# Altium footprint library 51常用（2）.PcbLib: 45 footprints (part 3 of 3)
Each footprint in its own frame and in the unit in brackets; x right, y up, seen from the top. Pads: shape width x height; smd on the part's side, far side on the other; paste and mask are expansions set on the pad; w line width, h text height; cw(c..) or ccw(c..) is an arc to the next point about the centre after c.
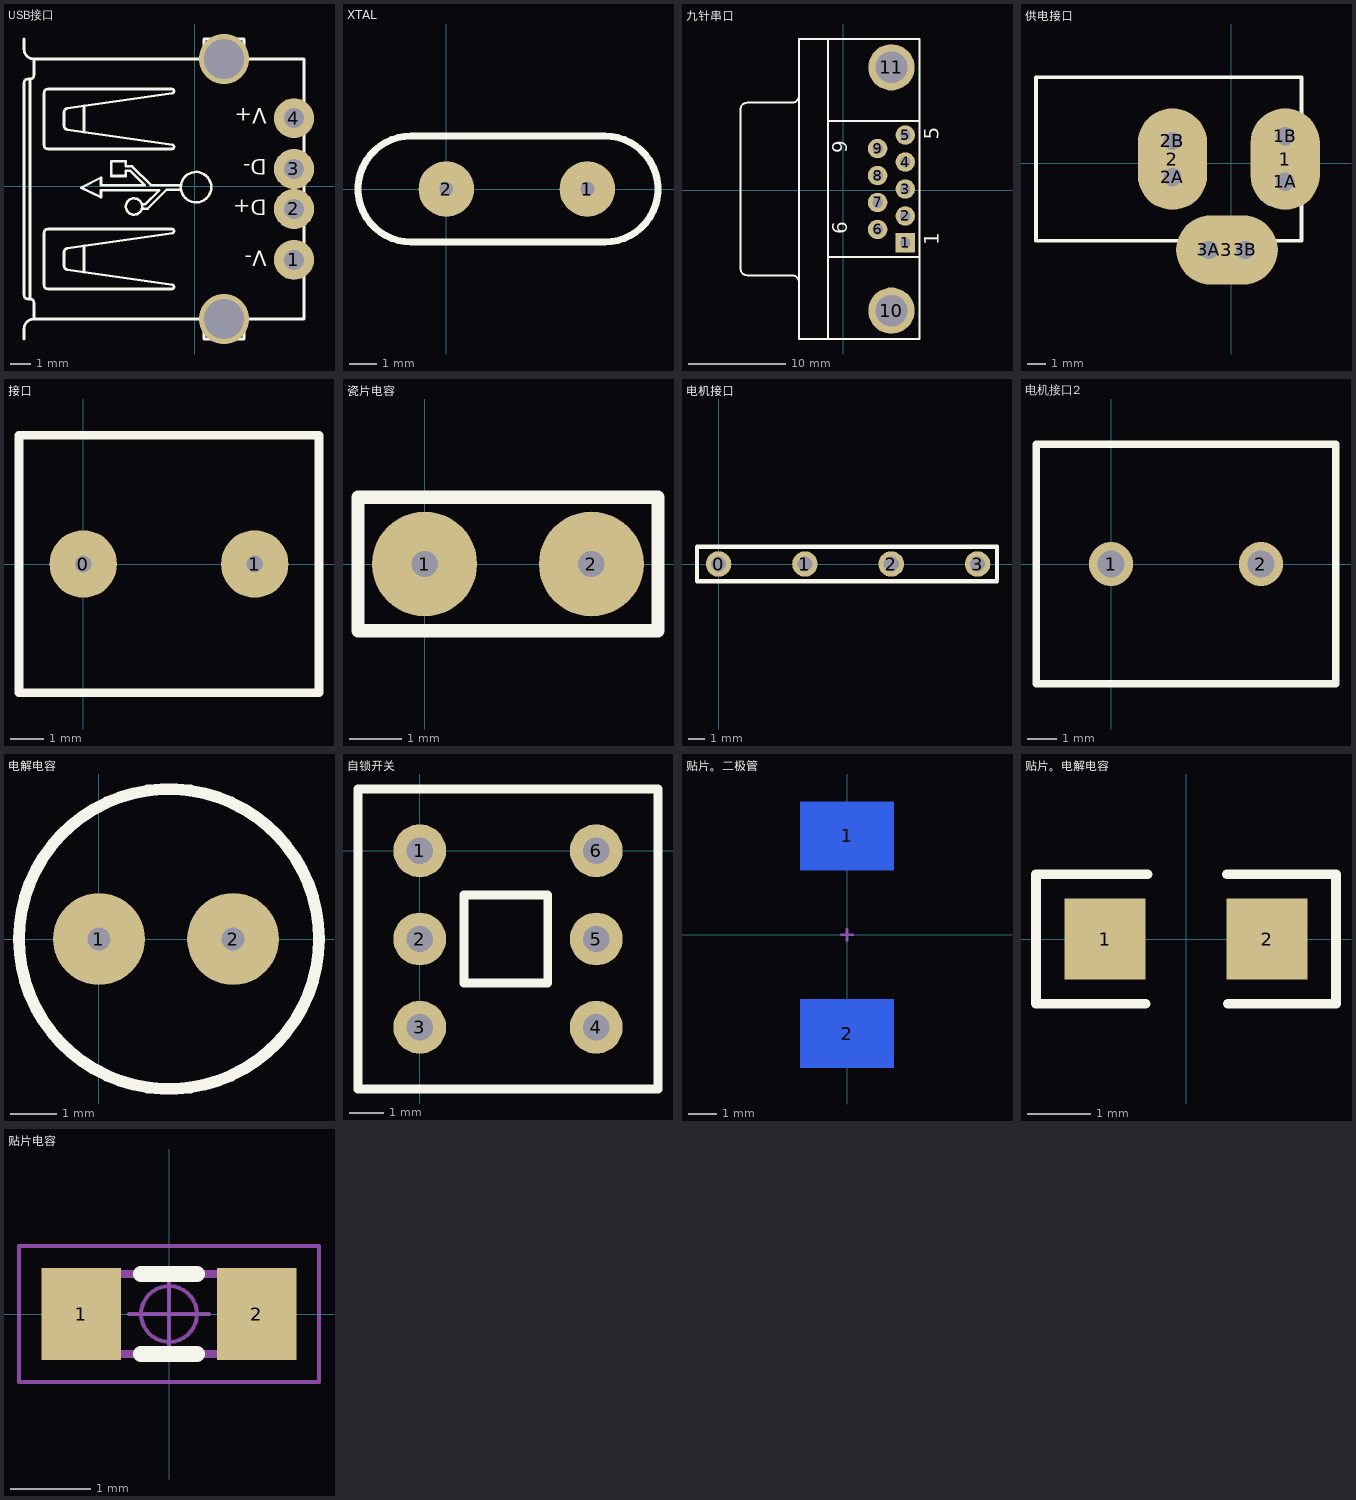
[diagram p2: the footprints below, top view; thin cyan lines are the x and y axes]

## USB接口 [mm]
pads (4):
  round 2 hole 1: 1(4.953,-3.667) 2(4.953,-1.127) 3(4.953,0.873) 4(4.953,3.413)
via 1.453,-6.627 diameter 2.5 hole 2
via 1.453,6.373 diameter 2.5 hole 2
Top Overlay:
  circle w0.127: c-3.045,-1.001 r0.406
  circle w0.127: c0.054,-0.036 r0.762
  lines w0.127: -8.547,-7.627 -8.547,-7.127 cw(c-8.047,-7.127) -8.047,-6.627 ; -8.547,7.373 -8.547,6.873 ccw(c-8.047,6.873) -8.047,6.373 ; -5.547,-4.277 -5.547,-2.976 ; -5.547,2.723 -5.547,4.024 ; -2.664,-1.103 -2.359,-1.103 -1.42,-0.163 -0.683,-0.163 ; -2.664,-0.9 -2.486,-0.9 -1.775,-0.189 -4.696,-0.189 -4.696,-0.544 -5.687,-0.062 -4.696,0.446 -4.696,0.065 -2.512,0.065 -3.223,0.777 -3.452,0.777 -3.452,0.523 -4.188,0.523 -4.188,1.259 -3.452,1.259 -3.452,1.005 -3.147,1.005 -2.207,0.065 -0.683,0.065 ; -8.247,-5.627 cw(c-8.247,-5.827) -8.047,-5.827 -8.047,-6.627 ; -8.247,-5.627 -8.347,-5.627 cw(c-8.347,-5.427) -8.547,-5.427 -8.547,5.173 cw(c-8.347,5.173) -8.347,5.373 -8.247,5.373 ; -8.247,-5.627 -8.247,5.373 ; -8.247,5.373 ccw(c-8.247,5.573) -8.047,5.573 -8.047,6.373 ; -8.047,-6.627 0.453,-6.627 0.453,-7.627 2.453,-7.627 2.453,-6.627 5.453,-6.627 5.453,6.373 2.453,6.373 2.453,7.373 0.453,7.373 0.453,6.373 -8.047,6.373 ; -7.547,-4.927 ccw(c-7.347,-4.927) -7.347,-5.127 -1.147,-5.127 ccw(c-1.147,-5.027) -1.047,-5.027 -1.047,-5.014 ccw(c-1.147,-5.014) -1.133,-4.915 -6.383,-4.157 cw(c-6.347,-3.96) -6.547,-3.96 -6.547,-3.294 cw(c-6.347,-3.294) -6.383,-3.097 -1.133,-2.339 ccw(c-1.147,-2.24) -1.047,-2.24 -1.047,-2.227 ccw(c-1.147,-2.227) -1.147,-2.127 -7.347,-2.127 ccw(c-7.347,-2.327) -7.547,-2.327 -7.547,-4.927 ; -7.547,2.073 ccw(c-7.347,2.073) -7.347,1.873 -1.147,1.873 ccw(c-1.147,1.973) -1.047,1.973 -1.047,1.986 ccw(c-1.147,1.986) -1.133,2.085 -6.383,2.843 cw(c-6.347,3.04) -6.547,3.04 -6.547,3.706 cw(c-6.347,3.706) -6.383,3.903 -1.133,4.661 ccw(c-1.147,4.76) -1.047,4.76 -1.047,4.773 ccw(c-1.147,4.773) -1.147,4.873 -7.347,4.873 ccw(c-7.347,4.673) -7.547,4.673 -7.547,2.073
  text "V+" at 3.588,3.902 h0.76
  text "V-" at 3.588,-3.21 h0.76
  text "D+" at 3.588,-0.67 h0.76
  text "D-" at 3.588,1.362 h0.76

## XTAL [mm]
pads (2):
  round 2 hole 0.5: 1(5.08,0) 2(0,0)
Top Overlay:
  lines w0.254: -1.27,-1.909 cw(c-1.27,0) -1.27,1.909 ; -1.27,-1.905 5.715,-1.905 ; -1.27,1.905 5.715,1.905 ; 5.715,-1.909 ccw(c5.715,0) 5.715,1.909

## 九针串口 [mm]
pads (11):
  rect 2x2 hole 1.09: 1(6.348,-5.413)
  round 2 hole 1.09: 2(6.348,-2.643) 3(6.348,0.127) 4(6.348,2.897) 5(6.348,5.667) 6(3.508,-4.028) 7(3.508,-1.258) 8(3.508,1.512) 9(3.508,4.282)
  round 4.76 hole 3.26: 10(4.928,-12.368) 11(4.928,12.622)
Top Overlay:
  lines w0.2: -9.877,-8.733 cw(c-9.877,-8.038) -10.572,-8.038 -10.572,8.292 cw(c-9.877,8.292) -9.877,8.987 ; -9.872,-8.738 -5.272,-8.738 cw(c-5.272,-9.433) -4.577,-9.433 ; -9.872,8.992 -5.272,8.992 ccw(c-5.272,9.687) -4.577,9.687 ; -1.572,-15.273 -1.572,15.527 ; -1.572,-6.873 7.828,-6.873 ; -1.572,7.127 7.828,7.127 ; -4.572,-15.273 7.828,-15.273 7.828,15.527 -4.572,15.527 -4.572,-15.273
  text "1" at 9.803,-5.663 h1.5
  text "5" at 9.803,5.167 h1.5
  text "9" at 0.403,3.782 h1.5
  text "6" at 0.403,-4.528 h1.5

## 供电接口 [mm]
pads (9):
  oval 3.81x5.588 all layers, no hole: 1(2.973,0.224) 2(-3.227,0.224)
  round 1.5 hole 1: 1A(2.973,-1.026) 1B(2.973,1.474) 2A(-3.227,-0.776) 3A(-1.227,-4.776) 3B(0.773,-4.776)
  round 2 hole 1: 2B(-3.227,1.224)
  oval 5.588x3.81 all layers, no hole: 3(-0.227,-4.776)
Top Overlay:
  lines w0.2: -2.427,-4.276 -10.727,-4.276 -10.727,4.724 3.873,4.724 3.873,2.424 ; 1.973,-4.276 3.873,-4.276 3.873,-1.976
Mechanical 1:
  lines w1: -3.227,-0.776 -3.227,1.224 ; -1.227,-4.776 0.773,-4.776 ; 2.973,-1.026 2.973,1.474
Mechanical 2:
  lines w2.016: -3.227,-0.776 -3.227,1.224 ; -1.227,-4.776 0.773,-4.776 ; 2.973,-1.026 2.973,1.474

## 接口 [mm] "绿色"
pads (2):
  round 2 hole 0.5: 0(0,0) 1(5.08,0)
Top Overlay:
  lines w0.254: -1.905,-3.81 -1.905,3.81 6.985,3.81 6.985,-3.81 -1.905,-3.81

## 瓷片电容 [mm] "104"
pads (2):
  round 2 hole 0.5: 1(0,0) 2(3.175,0)
Top Overlay:
  lines w0.254: -1.27,-1.27 -1.27,1.27 4.445,1.27 4.445,-1.27 -1.27,-1.27

## 电机接口 [mm]
pads (4):
  round 1.5 hole 0.9: 0(0,0) 1(5.08,0) 2(10.16,0) 3(15.24,0)
Top Overlay:
  lines w0.254: 16.383,-1.016 -1.27,-1.016 -1.27,1.016 16.383,1.016 16.383,-0.889

## 电机接口2 [mm]
pads (2):
  round 1.5 hole 0.9: 1(0,0) 2(5.08,0)
Top Overlay:
  lines w0.254: -2.54,-4.064 -2.54,4.064 7.62,4.064 7.62,-4.064 -2.54,-4.064

## 电解电容 [mm]
height 0.7
pads (2):
  round 2 hole 0.5: 1(0,0) 2(2.921,0)
Top Overlay:
  circle w0.254: c1.524,0 r3.265

## 自锁开关 [mil]
pads (6):
  round 60 hole 30: 1(0,0) 2(0,-100) 3(0,-200) 4(200,-200) 5(200,-100) 6(200,0)
Top Overlay:
  lines w10: -70,-270 -70,70 270,70 270,-270 -70,-270 ; 50,-150 145,-150 145,-50 50,-50 50,-150

## 贴片。二极管 [mm]
pads (2):
  rect 3.3x2.4 smd far side: 1(0,3.475) 2(0,-3.475)
Bottom Overlay:
  lines w0.2: -2.055,-4.975 -1.6,-5.425 1.6,-5.425 2.05,-4.975 2.05,-2.375 ; -2.05,-4.975 -2.05,-2.375 ; -2.05,2.375 -2.05,5.075 2.05,5.075 2.05,2.375
Mechanical 1:
  lines w0.1: -0.2,0 0.2,0 ; 0,-0.2 0,0.2

## 贴片。电解电容 [mm]
pads (2):
  rect 1.27x1.27 smd: 1(-1.27,0) 2(1.27,0)
Top Overlay:
  lines w0.152: -0.638,-1.016 -2.286,-1.016 -2.355,-1.016 -2.355,1.016 -2.159,1.016 -0.608,1.016 ; 0.64,1.016 2.286,1.016 2.348,1.016 2.348,-1.016 2.286,-1.016 0.649,-1.016

## 贴片电容 [mm]
pads (2):
  rect 1x1.15 smd: 1(-1.1,0) 2(1.1,0)
Top Overlay:
  lines w0.2: -0.35,-0.5 0.35,-0.5 ; -0.35,0.5 0.35,0.5
Mechanical 1:
  lines w0.1: -1.25,-0.5 1.25,-0.5 1.25,0.5 -1.25,0.5 -1.25,-0.5
Mechanical 16:
  circle w0.05: c0,0 r0.35
  lines w0.05: -0.5,0 0.5,0 ; 0,-0.5 0,0.5 ; -1.88,-0.85 1.88,-0.85 1.88,0.85 -1.88,0.85 -1.88,-0.85